# Altium footprint library OESIP.PcbLib: 1 footprints
Each footprint in its own frame and in the unit in brackets; x right, y up, seen from the top. Pads: shape width x height; smd on the part's side, far side on the other; paste and mask are expansions set on the pad; w line width, h text height; cw(c..) or ccw(c..) is an arc to the next point about the centre after c.
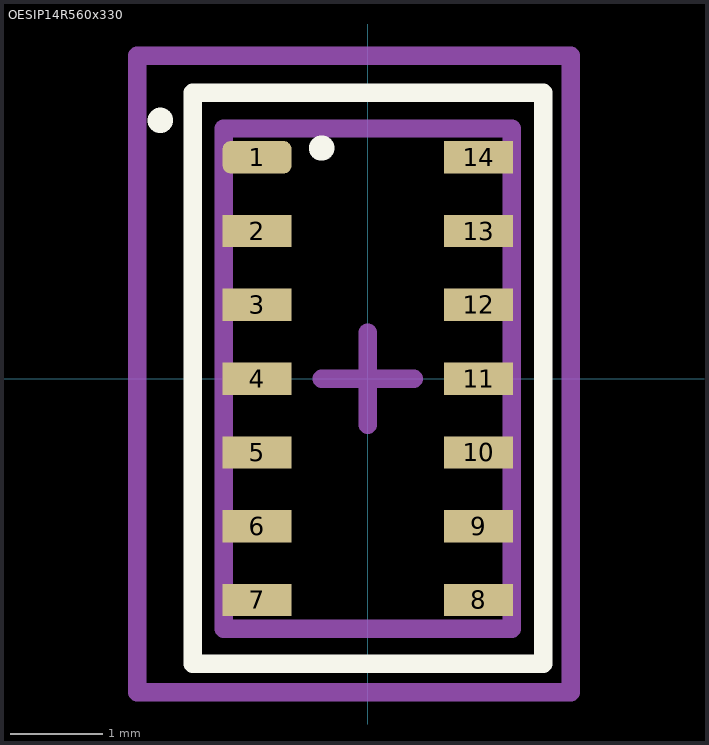
[diagram p0: the footprint, top view; thin cyan lines are the x and y axes]

## OESIP14R560x330 [mm] "14 pin OESIP 5.6mm by 3.3 mm"
pads (14):
  rrect50% 0.75x0.35 smd: 1(-1.2,2.4)
  rect 0.75x0.35 smd: 2(-1.2,1.6) 3(-1.2,0.8) 4(-1.2,0) 5(-1.2,-0.8) 6(-1.2,-1.6) 7(-1.2,-2.4) 8(1.2,-2.4) 9(1.2,-1.6) 10(1.2,-0.8) 11(1.2,0) 12(1.2,0.8) 13(1.2,1.6) 14(1.2,2.4)
Top Overlay:
  circle w0.254: c-0.5,2.5 r0.01
  circle w0.254: c-2.25,2.8 r0.01
  lines w0.2: -1.9,-3.09 -1.9,3.1 1.9,3.1 1.9,1.7 1.9,-3.09 1.19,-3.09 -1.9,-3.09
Mechanical 13:
  lines w0.2: -1.564,-2.713 -1.564,2.712 1.558,2.712 1.558,-2.713 0.144,-2.713 -1.564,-2.713
Mechanical 15:
  lines w0.2: 0,-0.5 0,0.5 0,0 ; 0,0 0.5,0 0,0 ; 0,0 -0.5,0 0,0 ; -2.5,-3.4 -2.5,3.5 2.2,3.5 2.2,-3.4 -2.5,-3.4
3D body "OESIP.step": height 1.55, standoff 0, extent -1.65,-2.8 1.65,2.8